# Altium schematic symbol library Schematic_Display.SchLib: 1 symbol
Pins are listed as number, name and electrical type; pins without a type are passive.

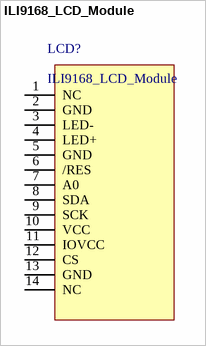
[diagram p0: symbol ILI9168_LCD_Module]

## ILI9168_LCD_Module
designator LCD?
pins: 1 NC, 2 GND, 3 LED-, 4 LED+, 5 GND, 6 /RES, 7 A0, 8 SDA, 9 SCK, 10 VCC, 11 IOVCC, 12 CS, 13 GND, 14 NC